# Altium schematic symbol library NEO-F10N-00B.SchLib: 1 symbol
Pins are listed as number, name and electrical type; pins without a type are passive.

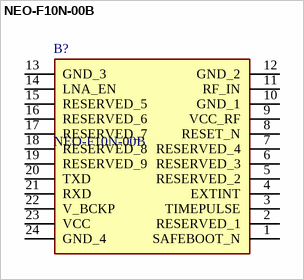
[diagram p0: symbol NEO-F10N-00B]

## NEO-F10N-00B
designator B?
GNSS / GPS Modules u-blox F10 GNSS module Flash, TCXO, SAW, LNA LCC, 12x16 mm, 250 pcs/reel; Geometry.Height: 2.6mm; Mouser Part Number: 377-NEO-F10N-00B; Mouser Price/Stock: https://www.mouser.co.uk/ProductDetail/u-blox/NEO-F10N-00B?qs=Imq1NPwxi76uVH%2FItRhLgw%3D%3D; Manufacturer_Name: u-blox; Manufacturer_Part_Number: NEO-F10N-00B; Datasheet Link: https://content.u-blox.com/sites/default/files/documents/NEO-F10N_DataSheet_UBX-23002117.pdf
footprint NEOF10N00B
pins: 1 SAFEBOOT_N, 2 RESERVED_1, 3 TIMEPULSE, 4 EXTINT, 5 RESERVED_2, 6 RESERVED_3, 7 RESERVED_4, 8 RESET_N, 9 VCC_RF, 10 GND_1, 11 RF_IN, 12 GND_2, 13 GND_3, 14 LNA_EN, 15 RESERVED_5, 16 RESERVED_6, 17 RESERVED_7, 18 RESERVED_8, 19 RESERVED_9, 20 TXD, 21 RXD, 22 V_BCKP, 23 VCC, 24 GND_4